# Altium schematic symbol library стабилизаторы линейные.SchLib: 28 symbols
Pins are listed as number, name and electrical type; pins without a type are passive.

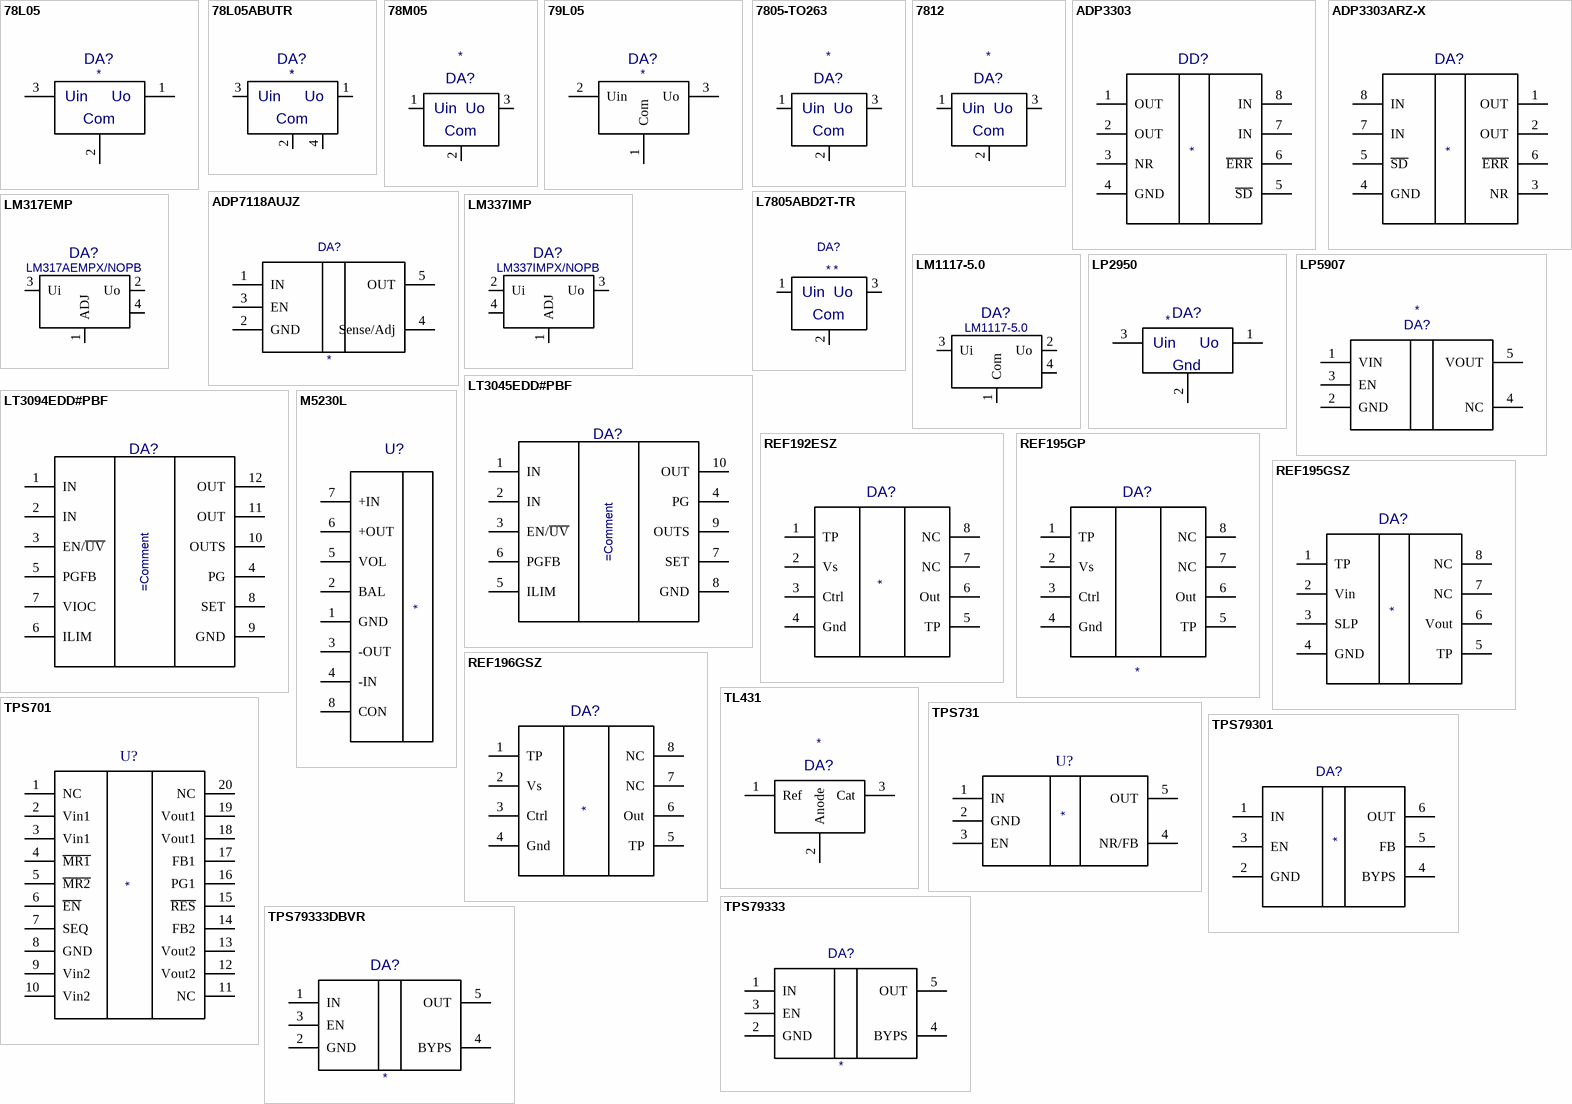
[diagram p0: symbols 78L05 to TPS79333DBVR]

## 78L05
designator DA?
Part Number: *; Value: *
footprint TO-92
pins: 1, 2, 3
text: Uin; Uo; Com

## 78L05ABUTR
designator DA?
Value: *; Part Number: *
footprint 78L05ABUTR
pins: 1, 2, 3, 4
text: Uin; Uo; Com

## 78M05
designator DA?
Value: *; Part Number: *
footprint DPAK
pins: 1, 2, 3
text: Uin; Uo; Com

## 79L05
designator DA?
Part Number: *; Value: *
footprint TO-92
pins: 1 Com, 2 Uin, 3 Uo

## 7805-TO263
designator DA?
Value: *; Part Number: *
footprint TO-263
pins: 1, 2, 3
text: Uin; Uo; Com

## 7812
designator DA?
Value: *; Part Number: *
footprint TO-220
pins: 1, 2, 3
text: Uin; Uo; Com

## ADP3303
designator DD?
Value: *; Part Number: *
footprint SO8
pins: 1 OUT, 2 OUT, 3 NR, 4 GND, 5 ~{SD}, 6 ~{ERR}, 7 IN, 8 IN

## ADP3303ARZ-X
designator DA?
Value: *; Part Number: *
footprint SO8
pins: 1 OUT, 2 OUT, 3 NR, 4 GND, 5 ~{SD}, 6 ~{ERR}, 7 IN, 8 IN

## ADP7118AUJZ
designator DA?
Part Number: *; Value: *
footprint SOT23-5
pins: 1 IN, 2 GND, 3 EN, 4 Sense/Adj, 5 OUT

## L7805ABD2T-TR
designator DA?
Part Number: *; Value: *
footprint TO-263
pins: 1, 2, 3
text: Uin; Uo; Com

## LM317EMP
designator DA?, comment LM317AEMPX/NOPB
Typical 0.005%/V line regulation / • 1% output voltage tolerance / • 1.5-A output current / • Adjustable output down to 1.25 V / • Input-output differential up to 40 V / • Current limit constant with temperature / • No output capacitor required / • Short-circuit protected output / • −40°C to 125°C operating temperature range; Part Number: LM317AEMPX/NOPB; Value: LM317AEMPX/NOPB
footprint SOT-223
pins: 1 ADJ, 2 Uo, 3 Ui, 4

## LM337IMP
designator DA?, comment LM337IMPX/NOPB
Part Number: LM337IMPX/NOPB; Value: LM337IMPX/NOPB
footprint SOT-223
pins: 1 ADJ, 2 Ui, 3 Uo, 4

## LM1117-5.0
designator DA?
Part Number: LM1117-5.0; Value: LM1117-5.0
footprint SOT-223
pins: 1 Com, 2 Uo, 3 Ui, 4

## LP2950
designator DA?
TO-92, 100mA +-0.5%; Value: *; Part Number: *
footprint TO-92
pins: 1, 2, 3
text: Uin; Uo; Gnd

## LP5907
designator DA?
Value: *; Part Number: *
footprint SOT23-5
pins: 1 VIN, 2 GND, 3 EN, 4 NC, 5 VOUT

## LT3045EDD#PBF
designator DA?
20V, 500mA, Ultralow Noise, / Ultrahigh PSRR Linear Regulator; Part Number: =Comment; Value: =Comment
footprint DFN-10
pins: 1 IN, 2 IN, 3 EN/~{UV}, 4 PG, 5 ILIM, 6 PGFB, 7 SET, 8 GND, 9 OUTS, 10 OUT

## LT3094EDD#PBF
designator DA?
–20V, 500mA, Ultralow / Noise, Ultrahigh PSRR / Negative Linear Regulator; Part Number: =Comment; Value: =Comment
footprint DFN-12 (SON, 12-Leads, Body 3,00x3,00mm, Pitch 0,45mm, Thermal Pad 2,38x1,65mm, IPC Medium Density)
pins: 1 IN, 2 IN, 3 EN/~{UV}, 4 PG, 5 PGFB, 6 ILIM, 7 VIOC, 8 SET, 9 GND, 10 OUTS, 11 OUT, 12 OUT

## M5230L
designator U?
Value: *; Part Number: *
pins: 1 GND, 2 BAL, 3 -OUT, 4 -IN, 5 VOL, 6 +OUT, 7 +IN, 8 CON

## REF192ESZ
designator DA?
Value: *; Part Number: *
footprint SO8
pins: 1 TP, 2 Vs, 3 Ctrl, 4 Gnd, 5 TP, 6 Out, 7 NC, 8 NC

## REF195GP
designator DA?
Value: *; Part Number: *
footprint DIP8
pins: 1 TP, 2 Vs, 3 Ctrl, 4 Gnd, 5 TP, 6 Out, 7 NC, 8 NC

## REF195GSZ
designator DA?
Value: *; Part Number: *
footprint SO8
pins: 1 TP, 2 Vin, 3 SLP, 4 GND, 5 TP, 6 Vout, 7 NC, 8 NC

## REF196GSZ
designator DA?
Value: *; Part Number: *
footprint SO8
pins: 1 TP, 2 Vs, 3 Ctrl, 4 Gnd, 5 TP, 6 Out, 7 NC, 8 NC

## TL431
designator DA?
Value: *; Part Number: *
footprint TO-92
pins: 1 Ref, 2 Anode, 3 Cat

## TPS701
designator U?
Value: *; Part Number: *
pins: 1 NC, 2 Vin1, 3 Vin1, 4 ~{MR1}, 5 ~{MR2}, 6 ~{EN}, 7 SEQ, 8 GND, 9 Vin2, 10 Vin2, 11 NC, 12 Vout2, 13 Vout2, 14 FB2, 15 ~{RES}, 16 PG1, 17 FB1, 18 Vout1, 19 Vout1, 20 NC

## TPS731
designator U?
Value: *; Part Number: *
footprint TPS731
pins: 1 IN, 2 GND, 3 EN, 4 NR/FB, 5 OUT

## TPS79301
designator DA?
Value: *; Part Number: *
footprint SOT23-6
pins: 1 IN, 2 GND, 3 EN, 4 BYPS, 5 FB, 6 OUT

## TPS79333
designator DA?
Value: *; Part Number: *
footprint TPS79333
pins: 1 IN, 2 GND, 3 EN, 4 BYPS, 5 OUT

## TPS79333DBVR
designator DA?
TPS79333DBVR; Value: *; Part Number: *
footprint SOT23-5
pins: 1 IN, 2 GND, 3 EN, 4 BYPS, 5 OUT